# Altium schematic symbol library 主控板原理图器件库.SCHLIB: 18 symbols
Pins are listed as number, name and electrical type; pins without a type are passive.

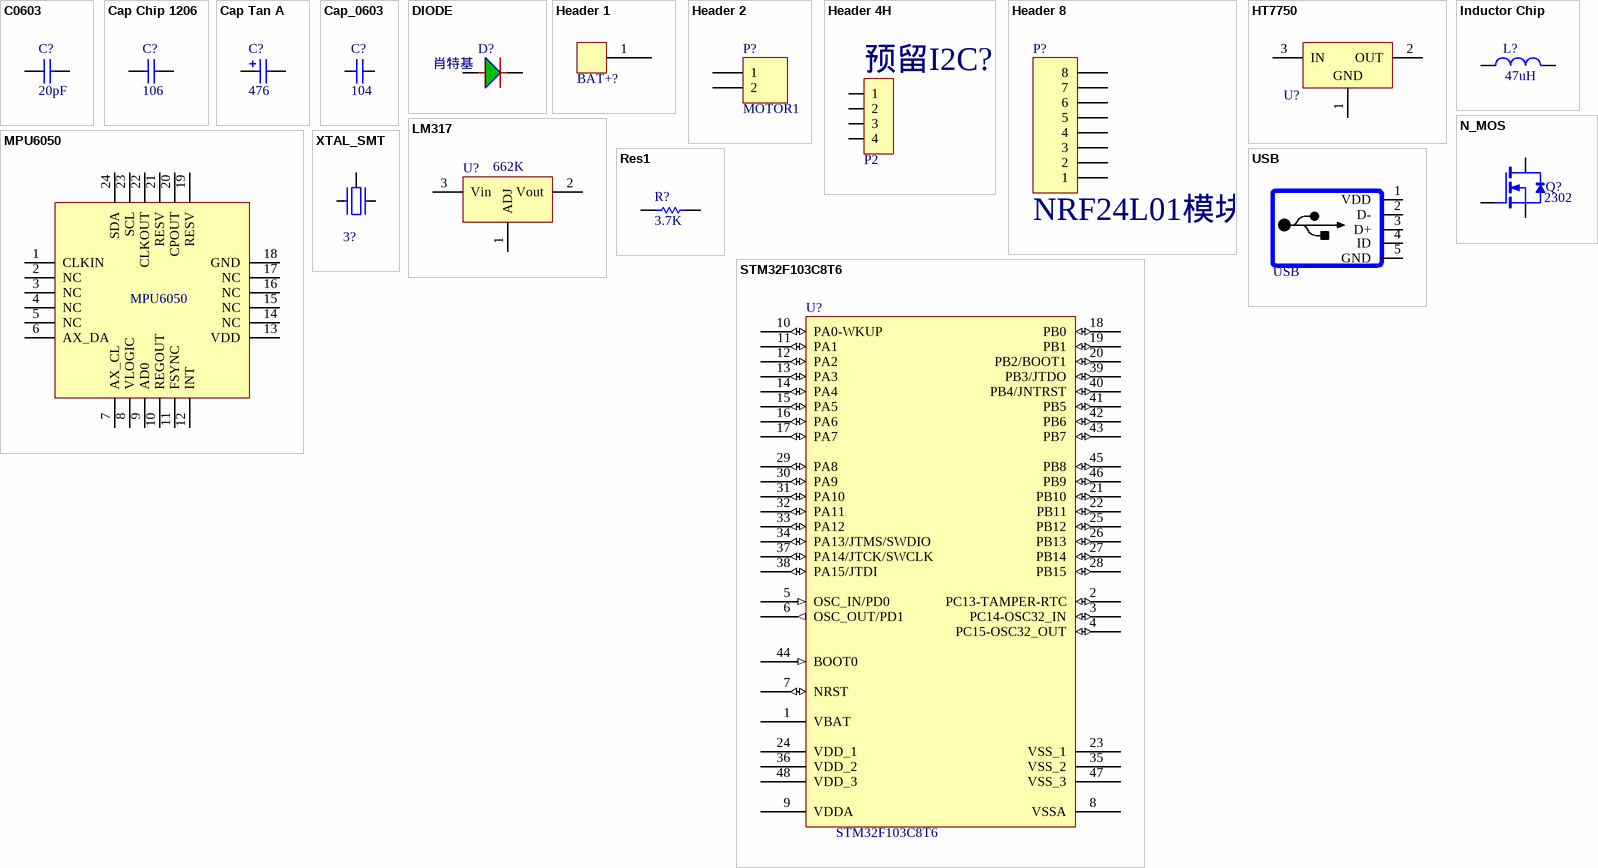
[diagram p0: symbols C0603 to XTAL_SMT]

## C0603
designator C?, comment 20pF
footprint 0603_C
pins: 1, 2
2 alternate drawings of the same symbol

## Cap Chip 1206
designator C?  value 106  (hidden comment: Cap Chip 1206)
Polarized Capacitor (Radial); Published: 8-Jun-2000; Revision: July-2002: Re-released for DXP Platform.; Publisher: Altium Limited
footprint CC3216-1206
footprint 0603 (Footprint not found)
footprint 0402
footprint RES-0805 (1/8W)
footprint 0603_c
pins: 1, 2

## Cap Tan A
designator C?  value 476  (hidden comment: Cap Tan A)
Polarized Capacitor (Radial); Voltage: 16V; Published: 8-Jun-2000; Revision: July-2002: Re-released for DXP Platform.; Publisher: Altium Limited
footprint TAN-A-3216
footprint 1206
pins: 1 2, 2 1

## Cap_0603
designator C?  value 104  (hidden comment: Cap_0603)
Capacitor
footprint CAP_0603
footprint 0603_C
pins: 1, 2

## DIODE
designator D?, comment 肖特基
footprint 0805D
pins: 1, 2
2 alternate drawings of the same symbol

## Header 1
designator BAT+?  (value not drawn)
footprint 电池接口
pins: 1

## Header 2
designator P?, comment MOTOR1
Header, 2-Pin; LatestRevisionDate: 17-Jul-2002; LatestRevisionNote: Re-released for DXP Platform.; Publisher: Altium Limited
footprint MOTOR
signal-integrity model Connector
footprint 2P
pins: 1, 2

## Header 4H
designator 预留I2C?, comment P2
Header, 4-Pin, Right Angle; LatestRevisionDate: 17-Jul-2002; LatestRevisionNote: Re-released for DXP Platform.; Publisher: Altium Limited
signal-integrity model Connector
footprint SIP4-BH
footprint 1.27*4
pins: 1, 2, 3, 4

## Header 8
designator P?, comment NRF24L01模块
Header, 8-Pin; LatestRevisionDate: 17-Jul-2002; LatestRevisionNote: Re-released for DXP Platform.; Publisher: Altium Limited
footprint 2.4G
signal-integrity model Connector
pins: 1, 2, 3, 4, 5, 6, 7, 8

## HT7750
designator U?, comment 7750  (value not drawn)
POSITIVE OUTPUT VOLTAGE
footprint SOT-223
footprint SOT-89
pins: 1 GND (power), 2 OUT (power), 3 IN (power)

## Inductor Chip
designator L?  value 47uH  (hidden comment: Inductor Chip)
Inductor; Published: 8-Jun-2000; Revision: July-2002: Re-released for DXP Platform.; Publisher: Altium Limited
footprint CR1005-0402
footprint CC4532-1812
footprint CR1608-0603
footprint CR2012-0805
footprint CC3216-1206
footprint 电感
pins: 1, 2

## LM317
designator U?, comment 662K
3-Terminal Adjustable Positive Voltage Regulator
simulation model LM317 (SUBCKT)
footprint LDO
pins: 1 ADJ, 2 Vout, 3 Vin

## MPU6050
designator U?
footprint MPU9150
footprint 6050
footprint QFN24
pins: 1 CLKIN, 2 NC, 3 NC, 4 NC, 5 NC, 6 AX_DA, 7 AX_CL, 8 VLOGIC, 9 AD0, 10 REGOUT, 11 FSYNC, 12 INT, 13 VDD, 14 NC, 15 NC, 16 NC, 17 NC, 18 GND, 19 RESV, 20 CPOUT, 21 RESV, 22 CLKOUT, 23 SCL, 24 SDA

## N_MOS
designator Q?, comment 2302
N-Channel Power MOSFET
footprint NMOS
pins: 1 G, 2 D, 3 S

## Res1
designator R?  value 3.7K  (hidden comment: Res1)
Resistor; Published: 8-Jun-2000; LatestRevisionDate: 17-Jul-2002; LatestRevisionNote: Re-released for DXP Platform.; PackageReference: 0603_R; Publisher: Altium Limited; PackageDescription: Axial Device, Thru-Hole; 2 Leads; 0.3 in Pin Spacing
footprint AXIAL-0.3 (Axial Device, Thru-Hole; 2 Leads; 0.3 in Pin Spacing)
simulation model RESISTOR (Resistor)
signal-integrity model Res
footprint 0603_R
pins: 1, 2

## STM32F103C8T6
designator U?
footprint LQFP48
pins: 1 VBAT (power), 2 PC13-TAMPER-RTC (io), 3 PC14-OSC32_IN (io), 4 PC15-OSC32_OUT (io), 5 OSC_IN/PD0 (in), 6 OSC_OUT/PD1 (out), 7 NRST (io), 8 VSSA (power), 9 VDDA (power), 10 PA0-WKUP (io), 11 PA1 (io), 12 PA2 (io), 13 PA3 (io), 14 PA4 (io), 15 PA5 (io), 16 PA6 (io), 17 PA7 (io), 18 PB0 (io), 19 PB1 (io), 20 PB2/BOOT1 (io), 21 PB10 (io), 22 PB11 (io), 23 VSS_1 (power), 24 VDD_1 (power), 25 PB12 (io), 26 PB13 (io), 27 PB14 (io), 28 PB15 (io), 29 PA8 (io), 30 PA9 (io), 31 PA10 (io), 32 PA11 (io), 33 PA12 (io), 34 PA13/JTMS/SWDIO (io), 35 VSS_2 (power), 36 VDD_2 (power), 37 PA14/JTCK/SWCLK (io), 38 PA15/JTDI (io), 39 PB3/JTDO (io), 40 PB4/JNTRST (io), 41 PB5 (io), 42 PB6 (io), 43 PB7 (io), 44 BOOT0 (in), 45 PB8 (io), 46 PB9 (io), 47 VSS_3 (power), 48 VDD_3 (power)

## USB
designator *?
footprint USB
pins: 1 VDD, 2 D-, 3 D+, 4 ID, 5 GND

## XTAL_SMT
designator 3?  (value not drawn)
footprint OSC
pins: 0, 1, 2